# Altium schematic symbol library Components - 23.02.21 - 19.45.SchLib: 1 symbol
Pins are listed as number, name and electrical type; pins without a type are passive.

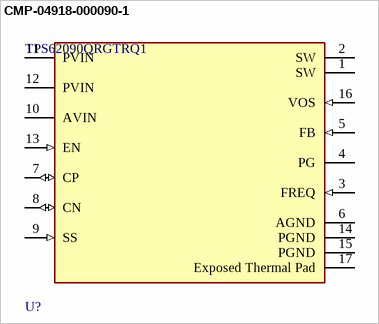
[diagram p0: symbol CMP-04918-000090-1]

## CMP-04918-000090-1
designator U?, comment TPS62090QRGTRQ1
IC REG BUCK ADJUSTABLE 3A 16QFN; Manufacturer: Texas Instruments; Switching Frequency: 1.4-2.8MHz; Automotive Grade: Grade 1; Nominal Supply Current: 20uA; Min Supply Voltage: 2.5V; Max Duty Cycle: 100%; Standoff Height: 0mm; Max Supply Voltage: 6V; Max Junction Temp: +125°C; Number Of Outputs: 1; Output Voltage: 0.8-6V; Output Type: AdjustableProgrammable; ComponentLink2URL: http://www.ti.com/lit/ds/symlink/tps62090-q1.pdf; Output Current: 3A; Package: RGT0016C; Digikey Description: IC REG BUCK ADJUSTABLE 3A 16QFN; Octopart: https://octopart.com/tps62090qrgtrq1-texas+instruments-30488867; Switching Topology: Buck; Height: 1mm; Device Class L1: Integrated Circuits (ICs); RoHS: TRUE; Temperature: -40°C to +125°C; ComponentLink2Description: Datasheet; Automotive: Yes; Temperature Range High: +125°C; Category: IC; Device Class L3: Voltage Regulators - Switching; Lead Free: Yes; Temperature Range Low: -40°C; Device Class L2: Power Management ICs; Manufacturer Part Number: TPS62090QRGTRQ1
footprint FP-RGT0016C-MFG
footprint FP-RGT0016C-IPC_C
footprint FP-RGT0016C-IPC_B
footprint FP-RGT0016C-IPC_A
pins: 1 SW (power), 2 SW (power), 3 FREQ (in), 4 PG (oc), 5 FB (in), 6 AGND (power), 7 CP (io), 8 CN (io), 9 SS (in), 10 AVIN (power), 11 PVIN (power), 12 PVIN (power), 13 EN (in), 14 PGND (power), 15 PGND (power), 16 VOS (in), 17 Exposed Thermal Pad (power)